# Altium integrated library Microchip Microcontroller 8-Bit PIC16 2.IntLib: 1656 symbols (part 52 of 56)
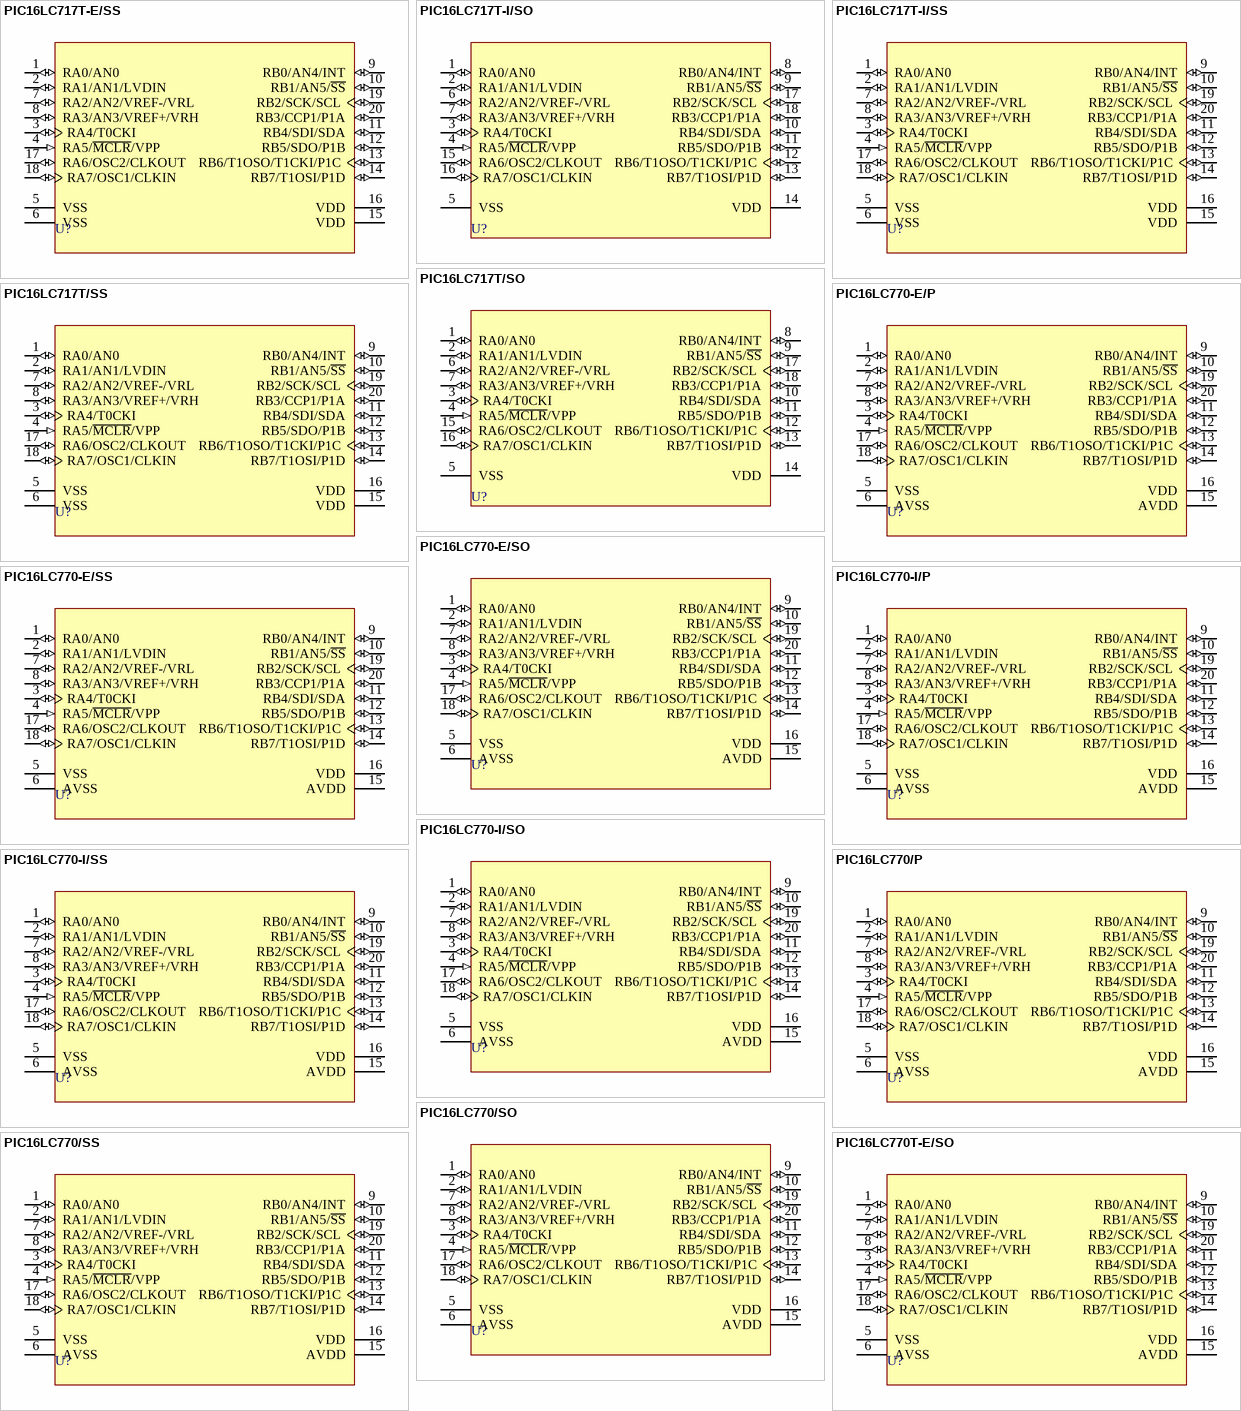
[diagram p159: symbols PIC16LC717T-E/SS to PIC16LC770T-E/SO]

## PIC16LC770-I/SS
designator U?
8-Bit CMOS Microcontroller with 12-Bit A/D, 2K (x14-Bit words) EPROM, 256 Bytes RAM, 20-Pin SSOP, 2.5 to 5.5V Supply Range, Industrial Temperature; Published: 11-Oct-2004; LatestRevisionDate: 04-Mar-2005; LatestRevisionNote: Stylized 3D Model Added.; DatasheetVersion: DS41120B_2002; PackageVersion: 2003; PackageReference: SSOP-20; Publisher: Altium Limited; PackageDescription: SSOP, Plastic; 20 Leads; Body Width 5.3 mm; Pitch 0.65 mm; Code_JEDEC: MO-150; ComponentLink1Description: Manufacturer Link; ComponentLink1URL: http://www.microchip.com; ComponentLink2Description: Datasheet; ComponentLink2URL: http://ww1.microchip.com/downloads/en/DeviceDoc/41120b.pdf; ComponentLink3Description: Packaging Specification; ComponentLink3URL: http://ww1.microchip.com/downloads/en/PackagingSpec/00049AD.pdf
footprint SSOP-20 (SSOP, Plastic; 20 Leads; Body Width 5.3 mm; Pitch 0.65 mm)
3D model SSOP-20 (SSOP, Plastic; 20 Leads; Body Width 5.3 mm; Pitch 0.65 mm)
pins: 1 RA0/AN0 (io), 2 RA1/AN1/LVDIN (io), 3 RA4/T0CKI (io), 4 RA5/~{MCLR}/VPP (in), 5 VSS (power), 6 AVSS (power), 7 RA2/AN2/VREF-/VRL (io), 8 RA3/AN3/VREF+/VRH (io), 9 RB0/AN4/INT (io), 10 RB1/AN5/~{SS} (io), 11 RB4/SDI/SDA (io), 12 RB5/SDO/P1B (io), 13 RB6/T1OSO/T1CKI/P1C (io), 14 RB7/T1OSI/P1D (io), 15 AVDD (power), 16 VDD (power), 17 RA6/OSC2/CLKOUT (io), 18 RA7/OSC1/CLKIN (io), 19 RB2/SCK/SCL (io), 20 RB3/CCP1/P1A (io)

## PIC16LC770/P
designator U?
8-Bit CMOS Microcontroller with 12-Bit A/D, 2K (x14-Bit words) EPROM, 256 Bytes RAM, 20-Pin PDIP, 2.5 to 5.5V Supply Range, Commercial Temperature; Published: 11-Oct-2004; LatestRevisionDate: 04-Mar-2005; LatestRevisionNote: Stylized 3D Model Added.; DatasheetVersion: DS41120B_2002; PackageVersion: 2003; PackageReference: PDIP300-20; Publisher: Altium Limited; PackageDescription: DIP, Plastic; 20 Leads; Row Spacing 7.62 mm; Pitch 2.54 mm; Code_JEDEC: MS-001; ComponentLink1Description: Manufacturer Link; ComponentLink1URL: http://www.microchip.com; ComponentLink2Description: Datasheet; ComponentLink2URL: http://ww1.microchip.com/downloads/en/DeviceDoc/41120b.pdf; ComponentLink3Description: Packaging Specification; ComponentLink3URL: http://ww1.microchip.com/downloads/en/PackagingSpec/00049AD.pdf
footprint PDIP300-20 (DIP, Plastic; 20 Leads; Row Spacing 7.62 mm; Pitch 2.54 mm)
3D model PDIP300-20 (DIP, Plastic; 20 Leads; Row Spacing 7.62 mm; Pitch 2.54 mm)
pins: 1 RA0/AN0 (io), 2 RA1/AN1/LVDIN (io), 3 RA4/T0CKI (io), 4 RA5/~{MCLR}/VPP (in), 5 VSS (power), 6 AVSS (power), 7 RA2/AN2/VREF-/VRL (io), 8 RA3/AN3/VREF+/VRH (io), 9 RB0/AN4/INT (io), 10 RB1/AN5/~{SS} (io), 11 RB4/SDI/SDA (io), 12 RB5/SDO/P1B (io), 13 RB6/T1OSO/T1CKI/P1C (io), 14 RB7/T1OSI/P1D (io), 15 AVDD (power), 16 VDD (power), 17 RA6/OSC2/CLKOUT (io), 18 RA7/OSC1/CLKIN (io), 19 RB2/SCK/SCL (io), 20 RB3/CCP1/P1A (io)

## PIC16LC770/SO
designator U?
8-Bit CMOS Microcontroller with 12-Bit A/D, 2K (x14-Bit words) EPROM, 256 Bytes RAM, 20-Pin SOIC, 2.5 to 5.5V Supply Range, Commercial Temperature; Published: 11-Oct-2004; LatestRevisionDate: 13-Apr-2006; LatestRevisionNote: IPC-7351 Footprint Added.; DatasheetVersion: DS41120B_2002; PackageVersion: 2003; PackageReference: SOIC300-20; Publisher: Altium Limited; PackageDescription: 20-Pin Plastic Wide Body Small Outline Integrated Circuit 1.27 mm Pitch; Code_JEDEC: MS-013-AC; Code_IPC: SOIC127P1030-20; ComponentLink1Description: Manufacturer Link; ComponentLink1URL: http://www.microchip.com; ComponentLink2Description: Datasheet; ComponentLink2URL: http://ww1.microchip.com/downloads/en/DeviceDoc/41120b.pdf; ComponentLink3Description: Packaging Specification; ComponentLink3URL: http://ww1.microchip.com/downloads/en/PackagingSpec/00049AD.pdf
footprint SOIC300-20_N (SOIC, 20-Leads, Body 12.8x7.5mm, Pitch 1.27mm, IPC Medium Density)
footprint SOIC300-20_L (SOIC, 20-Leads, Body 12.8x7.5mm, Pitch 1.27mm, IPC High Density)
footprint SOIC300-20_M (SOIC, 20-Leads, Body 12.8x7.5mm, Pitch 1.27mm, IPC Low Density)
3D model SOIC300-20 (20-Pin Plastic Wide Body Small Outline Integrated Circuit 1.27 mm Pitch)
pins: 1 RA0/AN0 (io), 2 RA1/AN1/LVDIN (io), 3 RA4/T0CKI (io), 4 RA5/~{MCLR}/VPP (in), 5 VSS (power), 6 AVSS (power), 7 RA2/AN2/VREF-/VRL (io), 8 RA3/AN3/VREF+/VRH (io), 9 RB0/AN4/INT (io), 10 RB1/AN5/~{SS} (io), 11 RB4/SDI/SDA (io), 12 RB5/SDO/P1B (io), 13 RB6/T1OSO/T1CKI/P1C (io), 14 RB7/T1OSI/P1D (io), 15 AVDD (power), 16 VDD (power), 17 RA6/OSC2/CLKOUT (io), 18 RA7/OSC1/CLKIN (io), 19 RB2/SCK/SCL (io), 20 RB3/CCP1/P1A (io)

## PIC16LC770/SS
designator U?
8-Bit CMOS Microcontroller with 12-Bit A/D, 2K (x14-Bit words) EPROM, 256 Bytes RAM, 20-Pin SSOP, 2.5 to 5.5V Supply Range, Commercial Temperature; Published: 11-Oct-2004; LatestRevisionDate: 04-Mar-2005; LatestRevisionNote: Stylized 3D Model Added.; DatasheetVersion: DS41120B_2002; PackageVersion: 2003; PackageReference: SSOP-20; Publisher: Altium Limited; PackageDescription: SSOP, Plastic; 20 Leads; Body Width 5.3 mm; Pitch 0.65 mm; Code_JEDEC: MO-150; ComponentLink1Description: Manufacturer Link; ComponentLink1URL: http://www.microchip.com; ComponentLink2Description: Datasheet; ComponentLink2URL: http://ww1.microchip.com/downloads/en/DeviceDoc/41120b.pdf; ComponentLink3Description: Packaging Specification; ComponentLink3URL: http://ww1.microchip.com/downloads/en/PackagingSpec/00049AD.pdf
footprint SSOP-20 (SSOP, Plastic; 20 Leads; Body Width 5.3 mm; Pitch 0.65 mm)
3D model SSOP-20 (SSOP, Plastic; 20 Leads; Body Width 5.3 mm; Pitch 0.65 mm)
pins: 1 RA0/AN0 (io), 2 RA1/AN1/LVDIN (io), 3 RA4/T0CKI (io), 4 RA5/~{MCLR}/VPP (in), 5 VSS (power), 6 AVSS (power), 7 RA2/AN2/VREF-/VRL (io), 8 RA3/AN3/VREF+/VRH (io), 9 RB0/AN4/INT (io), 10 RB1/AN5/~{SS} (io), 11 RB4/SDI/SDA (io), 12 RB5/SDO/P1B (io), 13 RB6/T1OSO/T1CKI/P1C (io), 14 RB7/T1OSI/P1D (io), 15 AVDD (power), 16 VDD (power), 17 RA6/OSC2/CLKOUT (io), 18 RA7/OSC1/CLKIN (io), 19 RB2/SCK/SCL (io), 20 RB3/CCP1/P1A (io)

## PIC16LC770T-E/SO
designator U?
8-Bit CMOS Microcontroller with 12-Bit A/D, 2K (x14-Bit words) EPROM, 256 Bytes RAM, 20-Pin SOIC, 2.5 to 5.5V Supply Range, Extended Temperature, Tape and Reel; Published: 11-Oct-2004; LatestRevisionDate: 13-Apr-2006; LatestRevisionNote: IPC-7351 Footprint Added.; DatasheetVersion: DS41120B_2002; PackageVersion: 2003; PackageReference: SOIC300-20; Publisher: Altium Limited; PackageDescription: 20-Pin Plastic Wide Body Small Outline Integrated Circuit 1.27 mm Pitch; Code_JEDEC: MS-013-AC; Code_IPC: SOIC127P1030-20; ComponentLink1Description: Manufacturer Link; ComponentLink1URL: http://www.microchip.com; ComponentLink2Description: Datasheet; ComponentLink2URL: http://ww1.microchip.com/downloads/en/DeviceDoc/41120b.pdf; ComponentLink3Description: Packaging Specification; ComponentLink3URL: http://ww1.microchip.com/downloads/en/PackagingSpec/00049AD.pdf
footprint SOIC300-20_N (SOIC, 20-Leads, Body 12.8x7.5mm, Pitch 1.27mm, IPC Medium Density)
footprint SOIC300-20_L (SOIC, 20-Leads, Body 12.8x7.5mm, Pitch 1.27mm, IPC High Density)
footprint SOIC300-20_M (SOIC, 20-Leads, Body 12.8x7.5mm, Pitch 1.27mm, IPC Low Density)
3D model SOIC300-20 (20-Pin Plastic Wide Body Small Outline Integrated Circuit 1.27 mm Pitch)
pins: 1 RA0/AN0 (io), 2 RA1/AN1/LVDIN (io), 3 RA4/T0CKI (io), 4 RA5/~{MCLR}/VPP (in), 5 VSS (power), 6 AVSS (power), 7 RA2/AN2/VREF-/VRL (io), 8 RA3/AN3/VREF+/VRH (io), 9 RB0/AN4/INT (io), 10 RB1/AN5/~{SS} (io), 11 RB4/SDI/SDA (io), 12 RB5/SDO/P1B (io), 13 RB6/T1OSO/T1CKI/P1C (io), 14 RB7/T1OSI/P1D (io), 15 AVDD (power), 16 VDD (power), 17 RA6/OSC2/CLKOUT (io), 18 RA7/OSC1/CLKIN (io), 19 RB2/SCK/SCL (io), 20 RB3/CCP1/P1A (io)

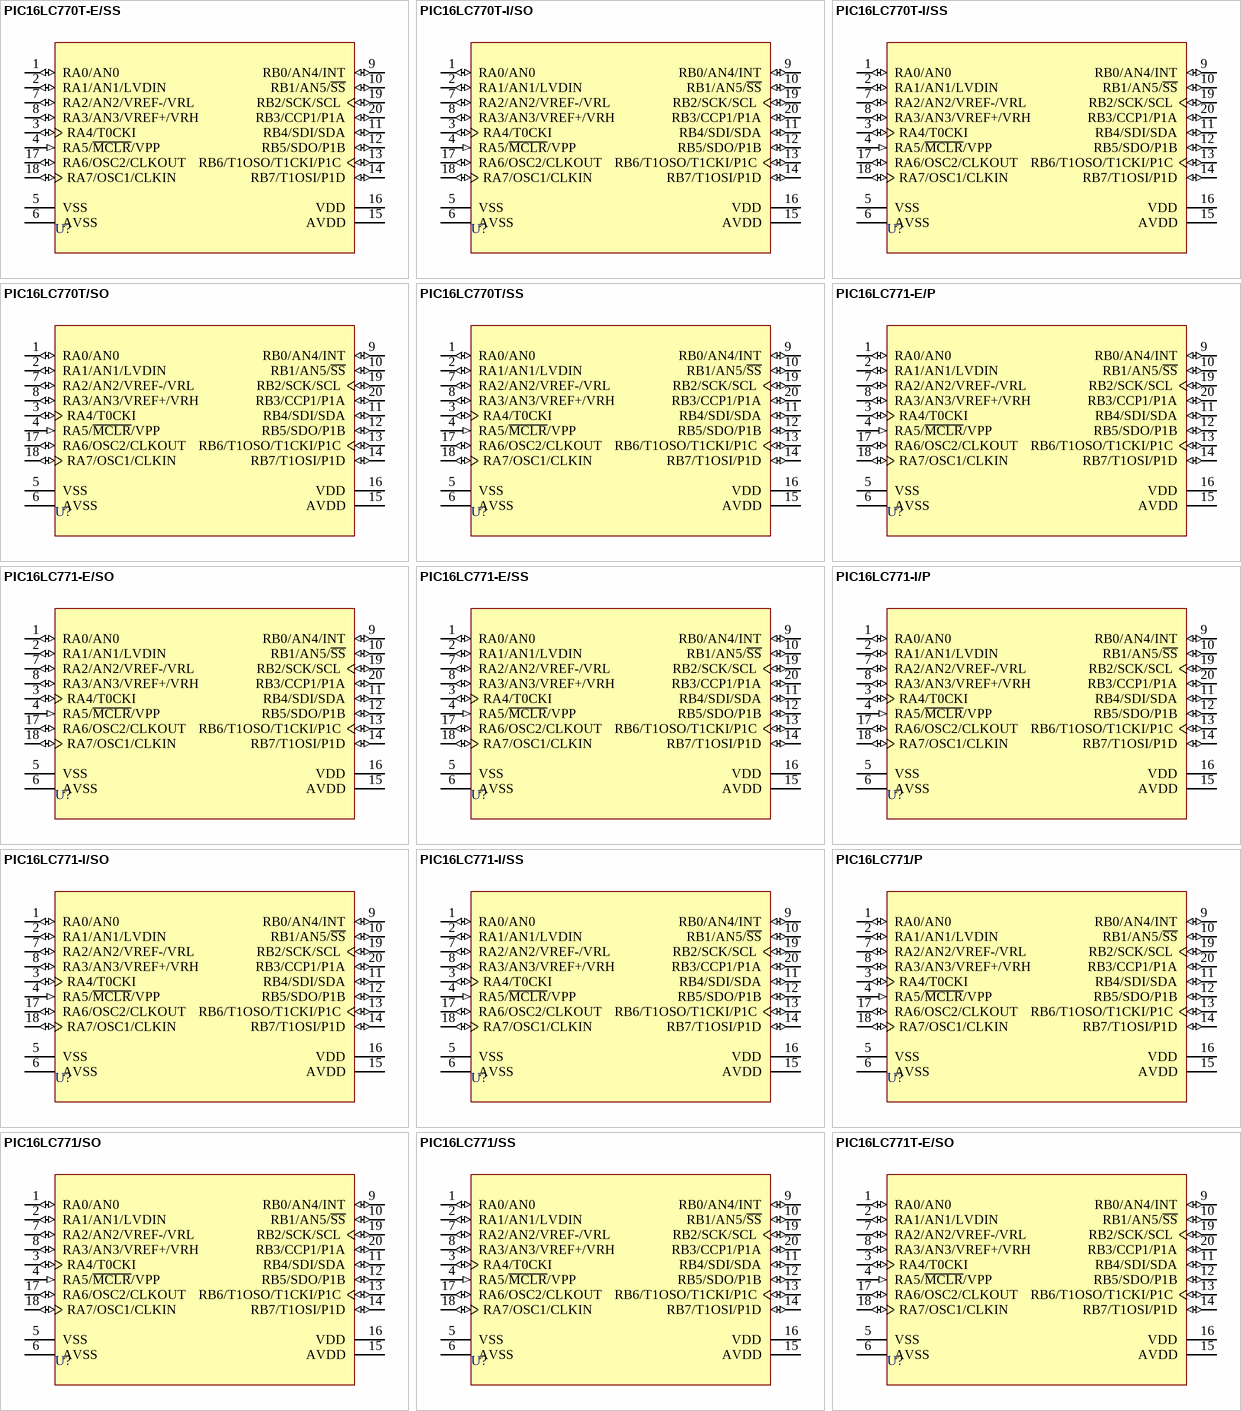
[diagram p100: symbols PIC16LC770T-E/SS to PIC16LC771T-E/SO]

## PIC16LC770T-E/SS
designator U?
8-Bit CMOS Microcontroller with 12-Bit A/D, 2K (x14-Bit words) EPROM, 256 Bytes RAM, 20-Pin SSOP, 2.5 to 5.5V Supply Range, Extended Temperature, Tape and Reel; Published: 11-Oct-2004; LatestRevisionDate: 04-Mar-2005; LatestRevisionNote: Stylized 3D Model Added.; DatasheetVersion: DS41120B_2002; PackageVersion: 2003; PackageReference: SSOP-20; Publisher: Altium Limited; PackageDescription: SSOP, Plastic; 20 Leads; Body Width 5.3 mm; Pitch 0.65 mm; Code_JEDEC: MO-150; ComponentLink1Description: Manufacturer Link; ComponentLink1URL: http://www.microchip.com; ComponentLink2Description: Datasheet; ComponentLink2URL: http://ww1.microchip.com/downloads/en/DeviceDoc/41120b.pdf; ComponentLink3Description: Packaging Specification; ComponentLink3URL: http://ww1.microchip.com/downloads/en/PackagingSpec/00049AD.pdf
footprint SSOP-20 (SSOP, Plastic; 20 Leads; Body Width 5.3 mm; Pitch 0.65 mm)
3D model SSOP-20 (SSOP, Plastic; 20 Leads; Body Width 5.3 mm; Pitch 0.65 mm)
pins: 1 RA0/AN0 (io), 2 RA1/AN1/LVDIN (io), 3 RA4/T0CKI (io), 4 RA5/~{MCLR}/VPP (in), 5 VSS (power), 6 AVSS (power), 7 RA2/AN2/VREF-/VRL (io), 8 RA3/AN3/VREF+/VRH (io), 9 RB0/AN4/INT (io), 10 RB1/AN5/~{SS} (io), 11 RB4/SDI/SDA (io), 12 RB5/SDO/P1B (io), 13 RB6/T1OSO/T1CKI/P1C (io), 14 RB7/T1OSI/P1D (io), 15 AVDD (power), 16 VDD (power), 17 RA6/OSC2/CLKOUT (io), 18 RA7/OSC1/CLKIN (io), 19 RB2/SCK/SCL (io), 20 RB3/CCP1/P1A (io)

## PIC16LC770T-I/SO
designator U?
8-Bit CMOS Microcontroller with 12-Bit A/D, 2K (x14-Bit words) EPROM, 256 Bytes RAM, 20-Pin SOIC, 2.5 to 5.5V Supply Range, Industrial Temperature, Tape and Reel; Published: 11-Oct-2004; LatestRevisionDate: 13-Apr-2006; LatestRevisionNote: IPC-7351 Footprint Added.; DatasheetVersion: DS41120B_2002; PackageVersion: 2003; PackageReference: SOIC300-20; Publisher: Altium Limited; PackageDescription: 20-Pin Plastic Wide Body Small Outline Integrated Circuit 1.27 mm Pitch; Code_JEDEC: MS-013-AC; Code_IPC: SOIC127P1030-20; ComponentLink1Description: Manufacturer Link; ComponentLink1URL: http://www.microchip.com; ComponentLink2Description: Datasheet; ComponentLink2URL: http://ww1.microchip.com/downloads/en/DeviceDoc/41120b.pdf; ComponentLink3Description: Packaging Specification; ComponentLink3URL: http://ww1.microchip.com/downloads/en/PackagingSpec/00049AD.pdf
footprint SOIC300-20_N (SOIC, 20-Leads, Body 12.8x7.5mm, Pitch 1.27mm, IPC Medium Density)
footprint SOIC300-20_L (SOIC, 20-Leads, Body 12.8x7.5mm, Pitch 1.27mm, IPC High Density)
footprint SOIC300-20_M (SOIC, 20-Leads, Body 12.8x7.5mm, Pitch 1.27mm, IPC Low Density)
3D model SOIC300-20 (20-Pin Plastic Wide Body Small Outline Integrated Circuit 1.27 mm Pitch)
pins: 1 RA0/AN0 (io), 2 RA1/AN1/LVDIN (io), 3 RA4/T0CKI (io), 4 RA5/~{MCLR}/VPP (in), 5 VSS (power), 6 AVSS (power), 7 RA2/AN2/VREF-/VRL (io), 8 RA3/AN3/VREF+/VRH (io), 9 RB0/AN4/INT (io), 10 RB1/AN5/~{SS} (io), 11 RB4/SDI/SDA (io), 12 RB5/SDO/P1B (io), 13 RB6/T1OSO/T1CKI/P1C (io), 14 RB7/T1OSI/P1D (io), 15 AVDD (power), 16 VDD (power), 17 RA6/OSC2/CLKOUT (io), 18 RA7/OSC1/CLKIN (io), 19 RB2/SCK/SCL (io), 20 RB3/CCP1/P1A (io)

## PIC16LC770T-I/SS
designator U?
8-Bit CMOS Microcontroller with 12-Bit A/D, 2K (x14-Bit words) EPROM, 256 Bytes RAM, 20-Pin SSOP, 2.5 to 5.5V Supply Range, Industrial Temperature, Tape and Reel; Published: 11-Oct-2004; LatestRevisionDate: 04-Mar-2005; LatestRevisionNote: Stylized 3D Model Added.; DatasheetVersion: DS41120B_2002; PackageVersion: 2003; PackageReference: SSOP-20; Publisher: Altium Limited; PackageDescription: SSOP, Plastic; 20 Leads; Body Width 5.3 mm; Pitch 0.65 mm; Code_JEDEC: MO-150; ComponentLink1Description: Manufacturer Link; ComponentLink1URL: http://www.microchip.com; ComponentLink2Description: Datasheet; ComponentLink2URL: http://ww1.microchip.com/downloads/en/DeviceDoc/41120b.pdf; ComponentLink3Description: Packaging Specification; ComponentLink3URL: http://ww1.microchip.com/downloads/en/PackagingSpec/00049AD.pdf
footprint SSOP-20 (SSOP, Plastic; 20 Leads; Body Width 5.3 mm; Pitch 0.65 mm)
3D model SSOP-20 (SSOP, Plastic; 20 Leads; Body Width 5.3 mm; Pitch 0.65 mm)
pins: 1 RA0/AN0 (io), 2 RA1/AN1/LVDIN (io), 3 RA4/T0CKI (io), 4 RA5/~{MCLR}/VPP (in), 5 VSS (power), 6 AVSS (power), 7 RA2/AN2/VREF-/VRL (io), 8 RA3/AN3/VREF+/VRH (io), 9 RB0/AN4/INT (io), 10 RB1/AN5/~{SS} (io), 11 RB4/SDI/SDA (io), 12 RB5/SDO/P1B (io), 13 RB6/T1OSO/T1CKI/P1C (io), 14 RB7/T1OSI/P1D (io), 15 AVDD (power), 16 VDD (power), 17 RA6/OSC2/CLKOUT (io), 18 RA7/OSC1/CLKIN (io), 19 RB2/SCK/SCL (io), 20 RB3/CCP1/P1A (io)

## PIC16LC770T/SO
designator U?
8-Bit CMOS Microcontroller with 12-Bit A/D, 2K (x14-Bit words) EPROM, 256 Bytes RAM, 20-Pin SOIC, 2.5 to 5.5V Supply Range, Commercial Temperature, Tape and Reel; Published: 11-Oct-2004; LatestRevisionDate: 13-Apr-2006; LatestRevisionNote: IPC-7351 Footprint Added.; DatasheetVersion: DS41120B_2002; PackageVersion: 2003; PackageReference: SOIC300-20; Publisher: Altium Limited; PackageDescription: 20-Pin Plastic Wide Body Small Outline Integrated Circuit 1.27 mm Pitch; Code_JEDEC: MS-013-AC; Code_IPC: SOIC127P1030-20; ComponentLink1Description: Manufacturer Link; ComponentLink1URL: http://www.microchip.com; ComponentLink2Description: Datasheet; ComponentLink2URL: http://ww1.microchip.com/downloads/en/DeviceDoc/41120b.pdf; ComponentLink3Description: Packaging Specification; ComponentLink3URL: http://ww1.microchip.com/downloads/en/PackagingSpec/00049AD.pdf
footprint SOIC300-20_N (SOIC, 20-Leads, Body 12.8x7.5mm, Pitch 1.27mm, IPC Medium Density)
footprint SOIC300-20_L (SOIC, 20-Leads, Body 12.8x7.5mm, Pitch 1.27mm, IPC High Density)
footprint SOIC300-20_M (SOIC, 20-Leads, Body 12.8x7.5mm, Pitch 1.27mm, IPC Low Density)
3D model SOIC300-20 (20-Pin Plastic Wide Body Small Outline Integrated Circuit 1.27 mm Pitch)
pins: 1 RA0/AN0 (io), 2 RA1/AN1/LVDIN (io), 3 RA4/T0CKI (io), 4 RA5/~{MCLR}/VPP (in), 5 VSS (power), 6 AVSS (power), 7 RA2/AN2/VREF-/VRL (io), 8 RA3/AN3/VREF+/VRH (io), 9 RB0/AN4/INT (io), 10 RB1/AN5/~{SS} (io), 11 RB4/SDI/SDA (io), 12 RB5/SDO/P1B (io), 13 RB6/T1OSO/T1CKI/P1C (io), 14 RB7/T1OSI/P1D (io), 15 AVDD (power), 16 VDD (power), 17 RA6/OSC2/CLKOUT (io), 18 RA7/OSC1/CLKIN (io), 19 RB2/SCK/SCL (io), 20 RB3/CCP1/P1A (io)

## PIC16LC770T/SS
designator U?
8-Bit CMOS Microcontroller with 12-Bit A/D, 2K (x14-Bit words) EPROM, 256 Bytes RAM, 20-Pin SSOP, 2.5 to 5.5V Supply Range, Commercial Temperature, Tape and Reel; Published: 11-Oct-2004; LatestRevisionDate: 04-Mar-2005; LatestRevisionNote: Stylized 3D Model Added.; DatasheetVersion: DS41120B_2002; PackageVersion: 2003; PackageReference: SSOP-20; Publisher: Altium Limited; PackageDescription: SSOP, Plastic; 20 Leads; Body Width 5.3 mm; Pitch 0.65 mm; Code_JEDEC: MO-150; ComponentLink1Description: Manufacturer Link; ComponentLink1URL: http://www.microchip.com; ComponentLink2Description: Datasheet; ComponentLink2URL: http://ww1.microchip.com/downloads/en/DeviceDoc/41120b.pdf; ComponentLink3Description: Packaging Specification; ComponentLink3URL: http://ww1.microchip.com/downloads/en/PackagingSpec/00049AD.pdf
footprint SSOP-20 (SSOP, Plastic; 20 Leads; Body Width 5.3 mm; Pitch 0.65 mm)
3D model SSOP-20 (SSOP, Plastic; 20 Leads; Body Width 5.3 mm; Pitch 0.65 mm)
pins: 1 RA0/AN0 (io), 2 RA1/AN1/LVDIN (io), 3 RA4/T0CKI (io), 4 RA5/~{MCLR}/VPP (in), 5 VSS (power), 6 AVSS (power), 7 RA2/AN2/VREF-/VRL (io), 8 RA3/AN3/VREF+/VRH (io), 9 RB0/AN4/INT (io), 10 RB1/AN5/~{SS} (io), 11 RB4/SDI/SDA (io), 12 RB5/SDO/P1B (io), 13 RB6/T1OSO/T1CKI/P1C (io), 14 RB7/T1OSI/P1D (io), 15 AVDD (power), 16 VDD (power), 17 RA6/OSC2/CLKOUT (io), 18 RA7/OSC1/CLKIN (io), 19 RB2/SCK/SCL (io), 20 RB3/CCP1/P1A (io)

## PIC16LC771-E/P
designator U?
8-Bit CMOS Microcontroller with 12-Bit A/D, 4K (x14-Bit words) EPROM, 256 Bytes RAM, 20-Pin PDIP, 2.5 to 5.5V Supply Range, Extended Temperature; Published: 11-Oct-2004; LatestRevisionDate: 04-Mar-2005; LatestRevisionNote: Stylized 3D Model Added.; DatasheetVersion: DS41120B_2002; PackageVersion: 2003; PackageReference: PDIP300-20; Publisher: Altium Limited; PackageDescription: DIP, Plastic; 20 Leads; Row Spacing 7.62 mm; Pitch 2.54 mm; Code_JEDEC: MS-001; ComponentLink1Description: Manufacturer Link; ComponentLink1URL: http://www.microchip.com; ComponentLink2Description: Datasheet; ComponentLink2URL: http://ww1.microchip.com/downloads/en/DeviceDoc/41120b.pdf; ComponentLink3Description: Packaging Specification; ComponentLink3URL: http://ww1.microchip.com/downloads/en/PackagingSpec/00049AD.pdf
footprint PDIP300-20 (DIP, Plastic; 20 Leads; Row Spacing 7.62 mm; Pitch 2.54 mm)
3D model PDIP300-20 (DIP, Plastic; 20 Leads; Row Spacing 7.62 mm; Pitch 2.54 mm)
pins: 1 RA0/AN0 (io), 2 RA1/AN1/LVDIN (io), 3 RA4/T0CKI (io), 4 RA5/~{MCLR}/VPP (in), 5 VSS (power), 6 AVSS (power), 7 RA2/AN2/VREF-/VRL (io), 8 RA3/AN3/VREF+/VRH (io), 9 RB0/AN4/INT (io), 10 RB1/AN5/~{SS} (io), 11 RB4/SDI/SDA (io), 12 RB5/SDO/P1B (io), 13 RB6/T1OSO/T1CKI/P1C (io), 14 RB7/T1OSI/P1D (io), 15 AVDD (power), 16 VDD (power), 17 RA6/OSC2/CLKOUT (io), 18 RA7/OSC1/CLKIN (io), 19 RB2/SCK/SCL (io), 20 RB3/CCP1/P1A (io)

## PIC16LC771-E/SO
designator U?
8-Bit CMOS Microcontroller with 12-Bit A/D, 4K (x14-Bit words) EPROM, 256 Bytes RAM, 20-Pin SOIC, 2.5 to 5.5V Supply Range, Extended Temperature; Published: 11-Oct-2004; LatestRevisionDate: 13-Apr-2006; LatestRevisionNote: IPC-7351 Footprint Added.; DatasheetVersion: DS41120B_2002; PackageVersion: 2003; PackageReference: SOIC300-20; Publisher: Altium Limited; PackageDescription: 20-Pin Plastic Wide Body Small Outline Integrated Circuit 1.27 mm Pitch; Code_JEDEC: MS-013-AC; Code_IPC: SOIC127P1030-20; ComponentLink1Description: Manufacturer Link; ComponentLink1URL: http://www.microchip.com; ComponentLink2Description: Datasheet; ComponentLink2URL: http://ww1.microchip.com/downloads/en/DeviceDoc/41120b.pdf; ComponentLink3Description: Packaging Specification; ComponentLink3URL: http://ww1.microchip.com/downloads/en/PackagingSpec/00049AD.pdf
footprint SOIC300-20_N (SOIC, 20-Leads, Body 12.8x7.5mm, Pitch 1.27mm, IPC Medium Density)
footprint SOIC300-20_L (SOIC, 20-Leads, Body 12.8x7.5mm, Pitch 1.27mm, IPC High Density)
footprint SOIC300-20_M (SOIC, 20-Leads, Body 12.8x7.5mm, Pitch 1.27mm, IPC Low Density)
3D model SOIC300-20 (20-Pin Plastic Wide Body Small Outline Integrated Circuit 1.27 mm Pitch)
pins: 1 RA0/AN0 (io), 2 RA1/AN1/LVDIN (io), 3 RA4/T0CKI (io), 4 RA5/~{MCLR}/VPP (in), 5 VSS (power), 6 AVSS (power), 7 RA2/AN2/VREF-/VRL (io), 8 RA3/AN3/VREF+/VRH (io), 9 RB0/AN4/INT (io), 10 RB1/AN5/~{SS} (io), 11 RB4/SDI/SDA (io), 12 RB5/SDO/P1B (io), 13 RB6/T1OSO/T1CKI/P1C (io), 14 RB7/T1OSI/P1D (io), 15 AVDD (power), 16 VDD (power), 17 RA6/OSC2/CLKOUT (io), 18 RA7/OSC1/CLKIN (io), 19 RB2/SCK/SCL (io), 20 RB3/CCP1/P1A (io)

## PIC16LC771-E/SS
designator U?
8-Bit CMOS Microcontroller with 12-Bit A/D, 4K (x14-Bit words) EPROM, 256 Bytes RAM, 20-Pin SSOP, 2.5 to 5.5V Supply Range, Extended Temperature; Published: 11-Oct-2004; LatestRevisionDate: 04-Mar-2005; LatestRevisionNote: Stylized 3D Model Added.; DatasheetVersion: DS41120B_2002; PackageVersion: 2003; PackageReference: SSOP-20; Publisher: Altium Limited; PackageDescription: SSOP, Plastic; 20 Leads; Body Width 5.3 mm; Pitch 0.65 mm; Code_JEDEC: MO-150; ComponentLink1Description: Manufacturer Link; ComponentLink1URL: http://www.microchip.com; ComponentLink2Description: Datasheet; ComponentLink2URL: http://ww1.microchip.com/downloads/en/DeviceDoc/41120b.pdf; ComponentLink3Description: Packaging Specification; ComponentLink3URL: http://ww1.microchip.com/downloads/en/PackagingSpec/00049AD.pdf
footprint SSOP-20 (SSOP, Plastic; 20 Leads; Body Width 5.3 mm; Pitch 0.65 mm)
3D model SSOP-20 (SSOP, Plastic; 20 Leads; Body Width 5.3 mm; Pitch 0.65 mm)
pins: 1 RA0/AN0 (io), 2 RA1/AN1/LVDIN (io), 3 RA4/T0CKI (io), 4 RA5/~{MCLR}/VPP (in), 5 VSS (power), 6 AVSS (power), 7 RA2/AN2/VREF-/VRL (io), 8 RA3/AN3/VREF+/VRH (io), 9 RB0/AN4/INT (io), 10 RB1/AN5/~{SS} (io), 11 RB4/SDI/SDA (io), 12 RB5/SDO/P1B (io), 13 RB6/T1OSO/T1CKI/P1C (io), 14 RB7/T1OSI/P1D (io), 15 AVDD (power), 16 VDD (power), 17 RA6/OSC2/CLKOUT (io), 18 RA7/OSC1/CLKIN (io), 19 RB2/SCK/SCL (io), 20 RB3/CCP1/P1A (io)

## PIC16LC771-I/P
designator U?
8-Bit CMOS Microcontroller with 12-Bit A/D, 4K (x14-Bit words) EPROM, 256 Bytes RAM, 20-Pin PDIP, 2.5 to 5.5V Supply Range, Industrial Temperature; Published: 11-Oct-2004; LatestRevisionDate: 04-Mar-2005; LatestRevisionNote: Stylized 3D Model Added.; DatasheetVersion: DS41120B_2002; PackageVersion: 2003; PackageReference: PDIP300-20; Publisher: Altium Limited; PackageDescription: DIP, Plastic; 20 Leads; Row Spacing 7.62 mm; Pitch 2.54 mm; Code_JEDEC: MS-001; ComponentLink1Description: Manufacturer Link; ComponentLink1URL: http://www.microchip.com; ComponentLink2Description: Datasheet; ComponentLink2URL: http://ww1.microchip.com/downloads/en/DeviceDoc/41120b.pdf; ComponentLink3Description: Packaging Specification; ComponentLink3URL: http://ww1.microchip.com/downloads/en/PackagingSpec/00049AD.pdf
footprint PDIP300-20 (DIP, Plastic; 20 Leads; Row Spacing 7.62 mm; Pitch 2.54 mm)
3D model PDIP300-20 (DIP, Plastic; 20 Leads; Row Spacing 7.62 mm; Pitch 2.54 mm)
pins: 1 RA0/AN0 (io), 2 RA1/AN1/LVDIN (io), 3 RA4/T0CKI (io), 4 RA5/~{MCLR}/VPP (in), 5 VSS (power), 6 AVSS (power), 7 RA2/AN2/VREF-/VRL (io), 8 RA3/AN3/VREF+/VRH (io), 9 RB0/AN4/INT (io), 10 RB1/AN5/~{SS} (io), 11 RB4/SDI/SDA (io), 12 RB5/SDO/P1B (io), 13 RB6/T1OSO/T1CKI/P1C (io), 14 RB7/T1OSI/P1D (io), 15 AVDD (power), 16 VDD (power), 17 RA6/OSC2/CLKOUT (io), 18 RA7/OSC1/CLKIN (io), 19 RB2/SCK/SCL (io), 20 RB3/CCP1/P1A (io)

## PIC16LC771-I/SO
designator U?
8-Bit CMOS Microcontroller with 12-Bit A/D, 4K (x14-Bit words) EPROM, 256 Bytes RAM, 20-Pin SOIC, 2.5 to 5.5V Supply Range, Industrial Temperature; Published: 11-Oct-2004; LatestRevisionDate: 13-Apr-2006; LatestRevisionNote: IPC-7351 Footprint Added.; DatasheetVersion: DS41120B_2002; PackageVersion: 2003; PackageReference: SOIC300-20; Publisher: Altium Limited; PackageDescription: 20-Pin Plastic Wide Body Small Outline Integrated Circuit 1.27 mm Pitch; Code_JEDEC: MS-013-AC; Code_IPC: SOIC127P1030-20; ComponentLink1Description: Manufacturer Link; ComponentLink1URL: http://www.microchip.com; ComponentLink2Description: Datasheet; ComponentLink2URL: http://ww1.microchip.com/downloads/en/DeviceDoc/41120b.pdf; ComponentLink3Description: Packaging Specification; ComponentLink3URL: http://ww1.microchip.com/downloads/en/PackagingSpec/00049AD.pdf
footprint SOIC300-20_N (SOIC, 20-Leads, Body 12.8x7.5mm, Pitch 1.27mm, IPC Medium Density)
footprint SOIC300-20_L (SOIC, 20-Leads, Body 12.8x7.5mm, Pitch 1.27mm, IPC High Density)
footprint SOIC300-20_M (SOIC, 20-Leads, Body 12.8x7.5mm, Pitch 1.27mm, IPC Low Density)
3D model SOIC300-20 (20-Pin Plastic Wide Body Small Outline Integrated Circuit 1.27 mm Pitch)
pins: 1 RA0/AN0 (io), 2 RA1/AN1/LVDIN (io), 3 RA4/T0CKI (io), 4 RA5/~{MCLR}/VPP (in), 5 VSS (power), 6 AVSS (power), 7 RA2/AN2/VREF-/VRL (io), 8 RA3/AN3/VREF+/VRH (io), 9 RB0/AN4/INT (io), 10 RB1/AN5/~{SS} (io), 11 RB4/SDI/SDA (io), 12 RB5/SDO/P1B (io), 13 RB6/T1OSO/T1CKI/P1C (io), 14 RB7/T1OSI/P1D (io), 15 AVDD (power), 16 VDD (power), 17 RA6/OSC2/CLKOUT (io), 18 RA7/OSC1/CLKIN (io), 19 RB2/SCK/SCL (io), 20 RB3/CCP1/P1A (io)

## PIC16LC771-I/SS
designator U?
8-Bit CMOS Microcontroller with 12-Bit A/D, 4K (x14-Bit words) EPROM, 256 Bytes RAM, 20-Pin SSOP, 2.5 to 5.5V Supply Range, Industrial Temperature; Published: 11-Oct-2004; LatestRevisionDate: 04-Mar-2005; LatestRevisionNote: Stylized 3D Model Added.; DatasheetVersion: DS41120B_2002; PackageVersion: 2003; PackageReference: SSOP-20; Publisher: Altium Limited; PackageDescription: SSOP, Plastic; 20 Leads; Body Width 5.3 mm; Pitch 0.65 mm; Code_JEDEC: MO-150; ComponentLink1Description: Manufacturer Link; ComponentLink1URL: http://www.microchip.com; ComponentLink2Description: Datasheet; ComponentLink2URL: http://ww1.microchip.com/downloads/en/DeviceDoc/41120b.pdf; ComponentLink3Description: Packaging Specification; ComponentLink3URL: http://ww1.microchip.com/downloads/en/PackagingSpec/00049AD.pdf
footprint SSOP-20 (SSOP, Plastic; 20 Leads; Body Width 5.3 mm; Pitch 0.65 mm)
3D model SSOP-20 (SSOP, Plastic; 20 Leads; Body Width 5.3 mm; Pitch 0.65 mm)
pins: 1 RA0/AN0 (io), 2 RA1/AN1/LVDIN (io), 3 RA4/T0CKI (io), 4 RA5/~{MCLR}/VPP (in), 5 VSS (power), 6 AVSS (power), 7 RA2/AN2/VREF-/VRL (io), 8 RA3/AN3/VREF+/VRH (io), 9 RB0/AN4/INT (io), 10 RB1/AN5/~{SS} (io), 11 RB4/SDI/SDA (io), 12 RB5/SDO/P1B (io), 13 RB6/T1OSO/T1CKI/P1C (io), 14 RB7/T1OSI/P1D (io), 15 AVDD (power), 16 VDD (power), 17 RA6/OSC2/CLKOUT (io), 18 RA7/OSC1/CLKIN (io), 19 RB2/SCK/SCL (io), 20 RB3/CCP1/P1A (io)

## PIC16LC771/P
designator U?
8-Bit CMOS Microcontroller with 12-Bit A/D, 4K (x14-Bit words) EPROM, 256 Bytes RAM, 20-Pin PDIP, 2.5 to 5.5V Supply Range, Commercial Temperature; Published: 11-Oct-2004; LatestRevisionDate: 04-Mar-2005; LatestRevisionNote: Stylized 3D Model Added.; DatasheetVersion: DS41120B_2002; PackageVersion: 2003; PackageReference: PDIP300-20; Publisher: Altium Limited; PackageDescription: DIP, Plastic; 20 Leads; Row Spacing 7.62 mm; Pitch 2.54 mm; Code_JEDEC: MS-001; ComponentLink1Description: Manufacturer Link; ComponentLink1URL: http://www.microchip.com; ComponentLink2Description: Datasheet; ComponentLink2URL: http://ww1.microchip.com/downloads/en/DeviceDoc/41120b.pdf; ComponentLink3Description: Packaging Specification; ComponentLink3URL: http://ww1.microchip.com/downloads/en/PackagingSpec/00049AD.pdf
footprint PDIP300-20 (DIP, Plastic; 20 Leads; Row Spacing 7.62 mm; Pitch 2.54 mm)
3D model PDIP300-20 (DIP, Plastic; 20 Leads; Row Spacing 7.62 mm; Pitch 2.54 mm)
pins: 1 RA0/AN0 (io), 2 RA1/AN1/LVDIN (io), 3 RA4/T0CKI (io), 4 RA5/~{MCLR}/VPP (in), 5 VSS (power), 6 AVSS (power), 7 RA2/AN2/VREF-/VRL (io), 8 RA3/AN3/VREF+/VRH (io), 9 RB0/AN4/INT (io), 10 RB1/AN5/~{SS} (io), 11 RB4/SDI/SDA (io), 12 RB5/SDO/P1B (io), 13 RB6/T1OSO/T1CKI/P1C (io), 14 RB7/T1OSI/P1D (io), 15 AVDD (power), 16 VDD (power), 17 RA6/OSC2/CLKOUT (io), 18 RA7/OSC1/CLKIN (io), 19 RB2/SCK/SCL (io), 20 RB3/CCP1/P1A (io)

## PIC16LC771/SO
designator U?
8-Bit CMOS Microcontroller with 12-Bit A/D, 4K (x14-Bit words) EPROM, 256 Bytes RAM, 20-Pin SOIC, 2.5 to 5.5V Supply Range, Commercial Temperature; Published: 11-Oct-2004; LatestRevisionDate: 13-Apr-2006; LatestRevisionNote: IPC-7351 Footprint Added.; DatasheetVersion: DS41120B_2002; PackageVersion: 2003; PackageReference: SOIC300-20; Publisher: Altium Limited; PackageDescription: 20-Pin Plastic Wide Body Small Outline Integrated Circuit 1.27 mm Pitch; Code_JEDEC: MS-013-AC; Code_IPC: SOIC127P1030-20; ComponentLink1Description: Manufacturer Link; ComponentLink1URL: http://www.microchip.com; ComponentLink2Description: Datasheet; ComponentLink2URL: http://ww1.microchip.com/downloads/en/DeviceDoc/41120b.pdf; ComponentLink3Description: Packaging Specification; ComponentLink3URL: http://ww1.microchip.com/downloads/en/PackagingSpec/00049AD.pdf
footprint SOIC300-20_N (SOIC, 20-Leads, Body 12.8x7.5mm, Pitch 1.27mm, IPC Medium Density)
footprint SOIC300-20_L (SOIC, 20-Leads, Body 12.8x7.5mm, Pitch 1.27mm, IPC High Density)
footprint SOIC300-20_M (SOIC, 20-Leads, Body 12.8x7.5mm, Pitch 1.27mm, IPC Low Density)
3D model SOIC300-20 (20-Pin Plastic Wide Body Small Outline Integrated Circuit 1.27 mm Pitch)
pins: 1 RA0/AN0 (io), 2 RA1/AN1/LVDIN (io), 3 RA4/T0CKI (io), 4 RA5/~{MCLR}/VPP (in), 5 VSS (power), 6 AVSS (power), 7 RA2/AN2/VREF-/VRL (io), 8 RA3/AN3/VREF+/VRH (io), 9 RB0/AN4/INT (io), 10 RB1/AN5/~{SS} (io), 11 RB4/SDI/SDA (io), 12 RB5/SDO/P1B (io), 13 RB6/T1OSO/T1CKI/P1C (io), 14 RB7/T1OSI/P1D (io), 15 AVDD (power), 16 VDD (power), 17 RA6/OSC2/CLKOUT (io), 18 RA7/OSC1/CLKIN (io), 19 RB2/SCK/SCL (io), 20 RB3/CCP1/P1A (io)

## PIC16LC771/SS
designator U?
8-Bit CMOS Microcontroller with 12-Bit A/D, 4K (x14-Bit words) EPROM, 256 Bytes RAM, 20-Pin SSOP, 2.5 to 5.5V Supply Range, Commercial Temperature; Published: 11-Oct-2004; LatestRevisionDate: 04-Mar-2005; LatestRevisionNote: Stylized 3D Model Added.; DatasheetVersion: DS41120B_2002; PackageVersion: 2003; PackageReference: SSOP-20; Publisher: Altium Limited; PackageDescription: SSOP, Plastic; 20 Leads; Body Width 5.3 mm; Pitch 0.65 mm; Code_JEDEC: MO-150; ComponentLink1Description: Manufacturer Link; ComponentLink1URL: http://www.microchip.com; ComponentLink2Description: Datasheet; ComponentLink2URL: http://ww1.microchip.com/downloads/en/DeviceDoc/41120b.pdf; ComponentLink3Description: Packaging Specification; ComponentLink3URL: http://ww1.microchip.com/downloads/en/PackagingSpec/00049AD.pdf
footprint SSOP-20 (SSOP, Plastic; 20 Leads; Body Width 5.3 mm; Pitch 0.65 mm)
3D model SSOP-20 (SSOP, Plastic; 20 Leads; Body Width 5.3 mm; Pitch 0.65 mm)
pins: 1 RA0/AN0 (io), 2 RA1/AN1/LVDIN (io), 3 RA4/T0CKI (io), 4 RA5/~{MCLR}/VPP (in), 5 VSS (power), 6 AVSS (power), 7 RA2/AN2/VREF-/VRL (io), 8 RA3/AN3/VREF+/VRH (io), 9 RB0/AN4/INT (io), 10 RB1/AN5/~{SS} (io), 11 RB4/SDI/SDA (io), 12 RB5/SDO/P1B (io), 13 RB6/T1OSO/T1CKI/P1C (io), 14 RB7/T1OSI/P1D (io), 15 AVDD (power), 16 VDD (power), 17 RA6/OSC2/CLKOUT (io), 18 RA7/OSC1/CLKIN (io), 19 RB2/SCK/SCL (io), 20 RB3/CCP1/P1A (io)

## PIC16LC771T-E/SO
designator U?
8-Bit CMOS Microcontroller with 12-Bit A/D, 4K (x14-Bit words) EPROM, 256 Bytes RAM, 20-Pin SOIC, 2.5 to 5.5V Supply Range, Extended Temperature, Tape and Reel; Published: 11-Oct-2004; LatestRevisionDate: 13-Apr-2006; LatestRevisionNote: IPC-7351 Footprint Added.; DatasheetVersion: DS41120B_2002; PackageVersion: 2003; PackageReference: SOIC300-20; Publisher: Altium Limited; PackageDescription: 20-Pin Plastic Wide Body Small Outline Integrated Circuit 1.27 mm Pitch; Code_JEDEC: MS-013-AC; Code_IPC: SOIC127P1030-20; ComponentLink1Description: Manufacturer Link; ComponentLink1URL: http://www.microchip.com; ComponentLink2Description: Datasheet; ComponentLink2URL: http://ww1.microchip.com/downloads/en/DeviceDoc/41120b.pdf; ComponentLink3Description: Packaging Specification; ComponentLink3URL: http://ww1.microchip.com/downloads/en/PackagingSpec/00049AD.pdf
footprint SOIC300-20_N (SOIC, 20-Leads, Body 12.8x7.5mm, Pitch 1.27mm, IPC Medium Density)
footprint SOIC300-20_L (SOIC, 20-Leads, Body 12.8x7.5mm, Pitch 1.27mm, IPC High Density)
footprint SOIC300-20_M (SOIC, 20-Leads, Body 12.8x7.5mm, Pitch 1.27mm, IPC Low Density)
3D model SOIC300-20 (20-Pin Plastic Wide Body Small Outline Integrated Circuit 1.27 mm Pitch)
pins: 1 RA0/AN0 (io), 2 RA1/AN1/LVDIN (io), 3 RA4/T0CKI (io), 4 RA5/~{MCLR}/VPP (in), 5 VSS (power), 6 AVSS (power), 7 RA2/AN2/VREF-/VRL (io), 8 RA3/AN3/VREF+/VRH (io), 9 RB0/AN4/INT (io), 10 RB1/AN5/~{SS} (io), 11 RB4/SDI/SDA (io), 12 RB5/SDO/P1B (io), 13 RB6/T1OSO/T1CKI/P1C (io), 14 RB7/T1OSI/P1D (io), 15 AVDD (power), 16 VDD (power), 17 RA6/OSC2/CLKOUT (io), 18 RA7/OSC1/CLKIN (io), 19 RB2/SCK/SCL (io), 20 RB3/CCP1/P1A (io)

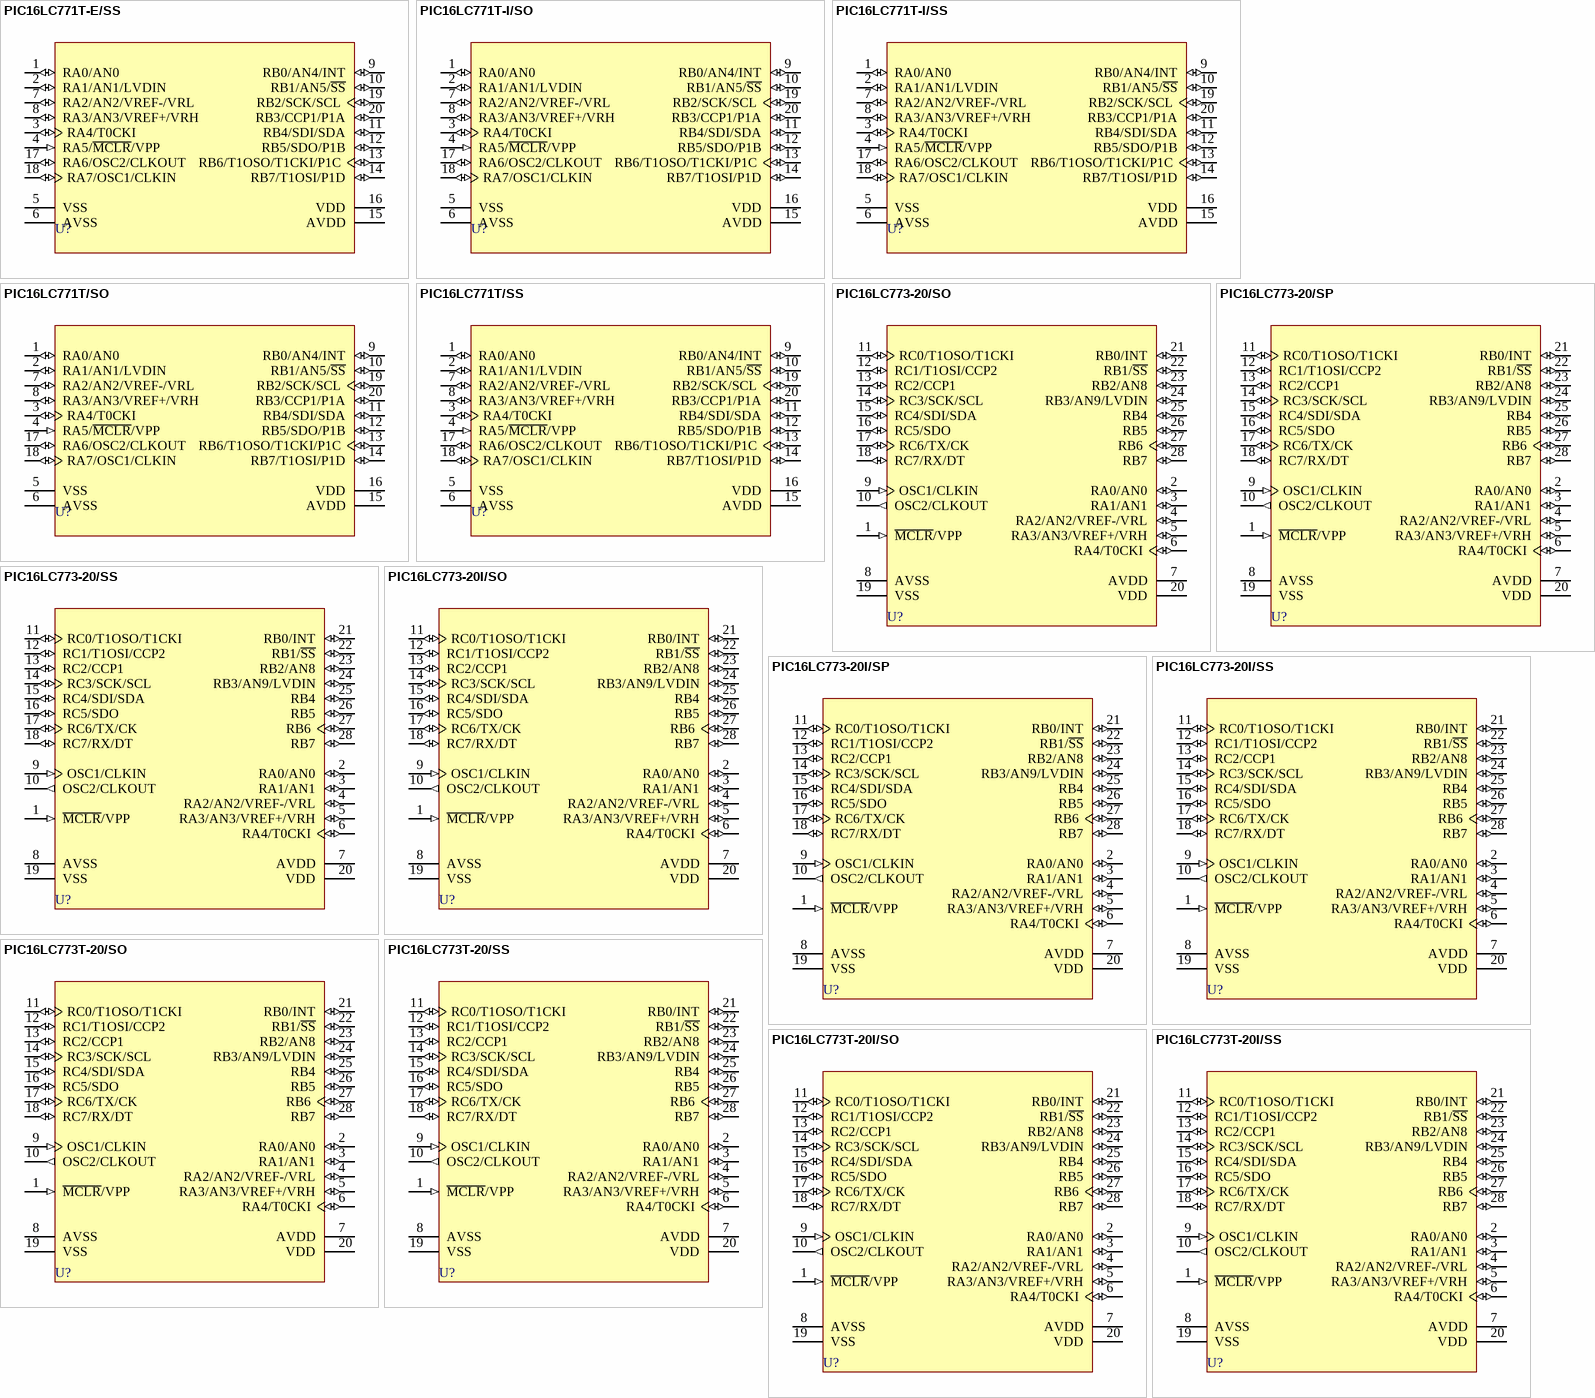
[diagram p101: symbols PIC16LC771T-E/SS to PIC16LC773T-20I/SS]

## PIC16LC771T-E/SS
designator U?
8-Bit CMOS Microcontroller with 12-Bit A/D, 4K (x14-Bit words) EPROM, 256 Bytes RAM, 20-Pin SSOP, 2.5 to 5.5V Supply Range, Extended Temperature, Tape and Reel; Published: 11-Oct-2004; LatestRevisionDate: 04-Mar-2005; LatestRevisionNote: Stylized 3D Model Added.; DatasheetVersion: DS41120B_2002; PackageVersion: 2003; PackageReference: SSOP-20; Publisher: Altium Limited; PackageDescription: SSOP, Plastic; 20 Leads; Body Width 5.3 mm; Pitch 0.65 mm; Code_JEDEC: MO-150; ComponentLink1Description: Manufacturer Link; ComponentLink1URL: http://www.microchip.com; ComponentLink2Description: Datasheet; ComponentLink2URL: http://ww1.microchip.com/downloads/en/DeviceDoc/41120b.pdf; ComponentLink3Description: Packaging Specification; ComponentLink3URL: http://ww1.microchip.com/downloads/en/PackagingSpec/00049AD.pdf
footprint SSOP-20 (SSOP, Plastic; 20 Leads; Body Width 5.3 mm; Pitch 0.65 mm)
3D model SSOP-20 (SSOP, Plastic; 20 Leads; Body Width 5.3 mm; Pitch 0.65 mm)
pins: 1 RA0/AN0 (io), 2 RA1/AN1/LVDIN (io), 3 RA4/T0CKI (io), 4 RA5/~{MCLR}/VPP (in), 5 VSS (power), 6 AVSS (power), 7 RA2/AN2/VREF-/VRL (io), 8 RA3/AN3/VREF+/VRH (io), 9 RB0/AN4/INT (io), 10 RB1/AN5/~{SS} (io), 11 RB4/SDI/SDA (io), 12 RB5/SDO/P1B (io), 13 RB6/T1OSO/T1CKI/P1C (io), 14 RB7/T1OSI/P1D (io), 15 AVDD (power), 16 VDD (power), 17 RA6/OSC2/CLKOUT (io), 18 RA7/OSC1/CLKIN (io), 19 RB2/SCK/SCL (io), 20 RB3/CCP1/P1A (io)

## PIC16LC771T-I/SO
designator U?
8-Bit CMOS Microcontroller with 12-Bit A/D, 4K (x14-Bit words) EPROM, 256 Bytes RAM, 20-Pin SOIC, 2.5 to 5.5V Supply Range, Industrial Temperature, Tape and Reel; Published: 11-Oct-2004; LatestRevisionDate: 13-Apr-2006; LatestRevisionNote: IPC-7351 Footprint Added.; DatasheetVersion: DS41120B_2002; PackageVersion: 2003; PackageReference: SOIC300-20; Publisher: Altium Limited; PackageDescription: 20-Pin Plastic Wide Body Small Outline Integrated Circuit 1.27 mm Pitch; Code_JEDEC: MS-013-AC; Code_IPC: SOIC127P1030-20; ComponentLink1Description: Manufacturer Link; ComponentLink1URL: http://www.microchip.com; ComponentLink2Description: Datasheet; ComponentLink2URL: http://ww1.microchip.com/downloads/en/DeviceDoc/41120b.pdf; ComponentLink3Description: Packaging Specification; ComponentLink3URL: http://ww1.microchip.com/downloads/en/PackagingSpec/00049AD.pdf
footprint SOIC300-20_N (SOIC, 20-Leads, Body 12.8x7.5mm, Pitch 1.27mm, IPC Medium Density)
footprint SOIC300-20_L (SOIC, 20-Leads, Body 12.8x7.5mm, Pitch 1.27mm, IPC High Density)
footprint SOIC300-20_M (SOIC, 20-Leads, Body 12.8x7.5mm, Pitch 1.27mm, IPC Low Density)
3D model SOIC300-20 (20-Pin Plastic Wide Body Small Outline Integrated Circuit 1.27 mm Pitch)
pins: 1 RA0/AN0 (io), 2 RA1/AN1/LVDIN (io), 3 RA4/T0CKI (io), 4 RA5/~{MCLR}/VPP (in), 5 VSS (power), 6 AVSS (power), 7 RA2/AN2/VREF-/VRL (io), 8 RA3/AN3/VREF+/VRH (io), 9 RB0/AN4/INT (io), 10 RB1/AN5/~{SS} (io), 11 RB4/SDI/SDA (io), 12 RB5/SDO/P1B (io), 13 RB6/T1OSO/T1CKI/P1C (io), 14 RB7/T1OSI/P1D (io), 15 AVDD (power), 16 VDD (power), 17 RA6/OSC2/CLKOUT (io), 18 RA7/OSC1/CLKIN (io), 19 RB2/SCK/SCL (io), 20 RB3/CCP1/P1A (io)

## PIC16LC771T-I/SS
designator U?
8-Bit CMOS Microcontroller with 12-Bit A/D, 4K (x14-Bit words) EPROM, 256 Bytes RAM, 20-Pin SSOP, 2.5 to 5.5V Supply Range, Industrial Temperature, Tape and Reel; Published: 11-Oct-2004; LatestRevisionDate: 04-Mar-2005; LatestRevisionNote: Stylized 3D Model Added.; DatasheetVersion: DS41120B_2002; PackageVersion: 2003; PackageReference: SSOP-20; Publisher: Altium Limited; PackageDescription: SSOP, Plastic; 20 Leads; Body Width 5.3 mm; Pitch 0.65 mm; Code_JEDEC: MO-150; ComponentLink1Description: Manufacturer Link; ComponentLink1URL: http://www.microchip.com; ComponentLink2Description: Datasheet; ComponentLink2URL: http://ww1.microchip.com/downloads/en/DeviceDoc/41120b.pdf; ComponentLink3Description: Packaging Specification; ComponentLink3URL: http://ww1.microchip.com/downloads/en/PackagingSpec/00049AD.pdf
footprint SSOP-20 (SSOP, Plastic; 20 Leads; Body Width 5.3 mm; Pitch 0.65 mm)
3D model SSOP-20 (SSOP, Plastic; 20 Leads; Body Width 5.3 mm; Pitch 0.65 mm)
pins: 1 RA0/AN0 (io), 2 RA1/AN1/LVDIN (io), 3 RA4/T0CKI (io), 4 RA5/~{MCLR}/VPP (in), 5 VSS (power), 6 AVSS (power), 7 RA2/AN2/VREF-/VRL (io), 8 RA3/AN3/VREF+/VRH (io), 9 RB0/AN4/INT (io), 10 RB1/AN5/~{SS} (io), 11 RB4/SDI/SDA (io), 12 RB5/SDO/P1B (io), 13 RB6/T1OSO/T1CKI/P1C (io), 14 RB7/T1OSI/P1D (io), 15 AVDD (power), 16 VDD (power), 17 RA6/OSC2/CLKOUT (io), 18 RA7/OSC1/CLKIN (io), 19 RB2/SCK/SCL (io), 20 RB3/CCP1/P1A (io)

## PIC16LC771T/SO
designator U?
8-Bit CMOS Microcontroller with 12-Bit A/D, 4K (x14-Bit words) EPROM, 256 Bytes RAM, 20-Pin SOIC, 2.5 to 5.5V Supply Range, Commercial Temperature, Tape and Reel; Published: 11-Oct-2004; LatestRevisionDate: 13-Apr-2006; LatestRevisionNote: IPC-7351 Footprint Added.; DatasheetVersion: DS41120B_2002; PackageVersion: 2003; PackageReference: SOIC300-20; Publisher: Altium Limited; PackageDescription: 20-Pin Plastic Wide Body Small Outline Integrated Circuit 1.27 mm Pitch; Code_JEDEC: MS-013-AC; Code_IPC: SOIC127P1030-20; ComponentLink1Description: Manufacturer Link; ComponentLink1URL: http://www.microchip.com; ComponentLink2Description: Datasheet; ComponentLink2URL: http://ww1.microchip.com/downloads/en/DeviceDoc/41120b.pdf; ComponentLink3Description: Packaging Specification; ComponentLink3URL: http://ww1.microchip.com/downloads/en/PackagingSpec/00049AD.pdf
footprint SOIC300-20_N (SOIC, 20-Leads, Body 12.8x7.5mm, Pitch 1.27mm, IPC Medium Density)
footprint SOIC300-20_L (SOIC, 20-Leads, Body 12.8x7.5mm, Pitch 1.27mm, IPC High Density)
footprint SOIC300-20_M (SOIC, 20-Leads, Body 12.8x7.5mm, Pitch 1.27mm, IPC Low Density)
3D model SOIC300-20 (20-Pin Plastic Wide Body Small Outline Integrated Circuit 1.27 mm Pitch)
pins: 1 RA0/AN0 (io), 2 RA1/AN1/LVDIN (io), 3 RA4/T0CKI (io), 4 RA5/~{MCLR}/VPP (in), 5 VSS (power), 6 AVSS (power), 7 RA2/AN2/VREF-/VRL (io), 8 RA3/AN3/VREF+/VRH (io), 9 RB0/AN4/INT (io), 10 RB1/AN5/~{SS} (io), 11 RB4/SDI/SDA (io), 12 RB5/SDO/P1B (io), 13 RB6/T1OSO/T1CKI/P1C (io), 14 RB7/T1OSI/P1D (io), 15 AVDD (power), 16 VDD (power), 17 RA6/OSC2/CLKOUT (io), 18 RA7/OSC1/CLKIN (io), 19 RB2/SCK/SCL (io), 20 RB3/CCP1/P1A (io)

## PIC16LC771T/SS
designator U?
8-Bit CMOS Microcontroller with 12-Bit A/D, 4K (x14-Bit words) EPROM, 256 Bytes RAM, 20-Pin SSOP, 2.5 to 5.5V Supply Range, Commercial Temperature, Tape and Reel; Published: 11-Oct-2004; LatestRevisionDate: 04-Mar-2005; LatestRevisionNote: Stylized 3D Model Added.; DatasheetVersion: DS41120B_2002; PackageVersion: 2003; PackageReference: SSOP-20; Publisher: Altium Limited; PackageDescription: SSOP, Plastic; 20 Leads; Body Width 5.3 mm; Pitch 0.65 mm; Code_JEDEC: MO-150; ComponentLink1Description: Manufacturer Link; ComponentLink1URL: http://www.microchip.com; ComponentLink2Description: Datasheet; ComponentLink2URL: http://ww1.microchip.com/downloads/en/DeviceDoc/41120b.pdf; ComponentLink3Description: Packaging Specification; ComponentLink3URL: http://ww1.microchip.com/downloads/en/PackagingSpec/00049AD.pdf
footprint SSOP-20 (SSOP, Plastic; 20 Leads; Body Width 5.3 mm; Pitch 0.65 mm)
3D model SSOP-20 (SSOP, Plastic; 20 Leads; Body Width 5.3 mm; Pitch 0.65 mm)
pins: 1 RA0/AN0 (io), 2 RA1/AN1/LVDIN (io), 3 RA4/T0CKI (io), 4 RA5/~{MCLR}/VPP (in), 5 VSS (power), 6 AVSS (power), 7 RA2/AN2/VREF-/VRL (io), 8 RA3/AN3/VREF+/VRH (io), 9 RB0/AN4/INT (io), 10 RB1/AN5/~{SS} (io), 11 RB4/SDI/SDA (io), 12 RB5/SDO/P1B (io), 13 RB6/T1OSO/T1CKI/P1C (io), 14 RB7/T1OSI/P1D (io), 15 AVDD (power), 16 VDD (power), 17 RA6/OSC2/CLKOUT (io), 18 RA7/OSC1/CLKIN (io), 19 RB2/SCK/SCL (io), 20 RB3/CCP1/P1A (io)

## PIC16LC773-20/SO
designator U?
8-Bit CMOS Microcontroller with 12-Bit A/D, 4K x 14 words EPROM, 256 x 8 Bytes RAM, 28-Pin SOIC, 2.5 to 5.5V Supply Range, Commercial Temperature; Note: 25mA source/sink per I/O.; Published: 11-Oct-2004; LatestRevisionDate: 13-Apr-2006; LatestRevisionNote: IPC-7351 Footprint Added.; DatasheetVersion: DS30275A_1999; PackageVersion: 2005; PackageReference: SOIC300-28; Publisher: Altium Limited; PackageDescription: 28-Pin Small Outline Integrated Circuit 1.27 mm Pitch; Code_JEDEC: MS-013; ComponentLink1Description: Manufacturer Link; ComponentLink1URL: http://www.microchip.com; ComponentLink2Description: Datasheet; ComponentLink2URL: http://ww1.microchip.com/downloads/en/DeviceDoc/30275a.pdf; ComponentLink3Description: Packaging Specification; ComponentLink3URL: http://ww1.microchip.com/downloads/en/PackagingSpec/00049AD.pdf
footprint SOIC300-28_N (SOIC, 28-Leads, Body 17.9x7.5mm, Pitch 1.27mm, IPC Medium Density)
footprint SOIC300-28_L (SOIC, 28-Leads, Body 17.9x7.5mm, Pitch 1.27mm, IPC High Density)
footprint SOIC300-28_M (SOIC, 28-Leads, Body 17.9x7.5mm, Pitch 1.27mm, IPC Low Density)
3D model SOIC300-28 (28-Pin Small Outline Integrated Circuit 1.27 mm Pitch)
pins: 1 ~{MCLR}/VPP (in), 2 RA0/AN0 (io), 3 RA1/AN1 (io), 4 RA2/AN2/VREF-/VRL (io), 5 RA3/AN3/VREF+/VRH (io), 6 RA4/T0CKI (io), 7 AVDD (power), 8 AVSS (power), 9 OSC1/CLKIN (in), 10 OSC2/CLKOUT (out), 11 RC0/T1OSO/T1CKI (io), 12 RC1/T1OSI/CCP2 (io), 13 RC2/CCP1 (io), 14 RC3/SCK/SCL (io), 15 RC4/SDI/SDA (io), 16 RC5/SDO (io), 17 RC6/TX/CK (io), 18 RC7/RX/DT (io), 19 VSS (power), 20 VDD (power), 21 RB0/INT (io), 22 RB1/~{SS} (io), 23 RB2/AN8 (io), 24 RB3/AN9/LVDIN (io), 25 RB4 (io), 26 RB5 (io), 27 RB6 (io), 28 RB7 (io)

## PIC16LC773-20/SP
designator U?
8-Bit CMOS Microcontroller with 12-Bit A/D, 4K x 14 words EPROM, 256 x 8 Bytes RAM, 28-Pin Skinny plastic DIP, 2.5 to 5.5V Supply Range, Commercial Temperature; Note: 25mA source/sink per I/O.; Published: 11-Oct-2004; LatestRevisionDate: 04-Mar-2005; LatestRevisionNote: Stylized 3D Model Added.; DatasheetVersion: DS30275A_1999; PackageVersion: 2003; PackageReference: PDIP300-28; Publisher: Altium Limited; PackageDescription: DIP, Plastic, Skinny; 28 Leads; Row Spacing 7.62 mm; Pitch 2.54 mm; Code_JEDEC: MO-095; ComponentLink1Description: Manufacturer Link; ComponentLink1URL: http://www.microchip.com; ComponentLink2Description: Datasheet; ComponentLink2URL: http://ww1.microchip.com/downloads/en/DeviceDoc/30275a.pdf; ComponentLink3Description: Packaging Specification; ComponentLink3URL: http://ww1.microchip.com/downloads/en/PackagingSpec/00049AD.pdf
footprint PDIP300-28 (DIP, Plastic, Skinny; 28 Leads; Row Spacing 7.62 mm; Pitch 2.54 mm)
3D model PDIP300-28 (DIP, Plastic, Skinny; 28 Leads; Row Spacing 7.62 mm; Pitch 2.54 mm)
pins: 1 ~{MCLR}/VPP (in), 2 RA0/AN0 (io), 3 RA1/AN1 (io), 4 RA2/AN2/VREF-/VRL (io), 5 RA3/AN3/VREF+/VRH (io), 6 RA4/T0CKI (io), 7 AVDD (power), 8 AVSS (power), 9 OSC1/CLKIN (in), 10 OSC2/CLKOUT (out), 11 RC0/T1OSO/T1CKI (io), 12 RC1/T1OSI/CCP2 (io), 13 RC2/CCP1 (io), 14 RC3/SCK/SCL (io), 15 RC4/SDI/SDA (io), 16 RC5/SDO (io), 17 RC6/TX/CK (io), 18 RC7/RX/DT (io), 19 VSS (power), 20 VDD (power), 21 RB0/INT (io), 22 RB1/~{SS} (io), 23 RB2/AN8 (io), 24 RB3/AN9/LVDIN (io), 25 RB4 (io), 26 RB5 (io), 27 RB6 (io), 28 RB7 (io)

## PIC16LC773-20/SS
designator U?
8-Bit CMOS Microcontroller with 12-Bit A/D, 4K x 14 words EPROM, 256 x 8 Bytes RAM, 28-Pin SSOP, 2.5 to 5.5V Supply Range, Commercial Temperature; Note: 25mA source/sink per I/O.; Published: 11-Oct-2004; LatestRevisionDate: 04-Mar-2005; LatestRevisionNote: Stylized 3D Model Added.; DatasheetVersion: DS30275A_1999; PackageVersion: 2005; PackageReference: SSOP-28; Publisher: Altium Limited; PackageDescription: SSOP, Plastic; 28 Leads; Body Width 5.2 mm; Pitch 0.65 mm; Code_JEDEC: MS-150; ComponentLink1Description: Manufacturer Link; ComponentLink1URL: http://www.microchip.com; ComponentLink2Description: Datasheet; ComponentLink2URL: http://ww1.microchip.com/downloads/en/DeviceDoc/30275a.pdf; ComponentLink3Description: Packaging Specification; ComponentLink3URL: http://ww1.microchip.com/downloads/en/PackagingSpec/00049AD.pdf
footprint SSOP-28 (SSOP, Plastic; 28 Leads; Body Width 5.2 mm; Pitch 0.65 mm)
3D model SSOP-28 (SSOP, Plastic; 28 Leads; Body Width 5.2 mm; Pitch 0.65 mm)
pins: 1 ~{MCLR}/VPP (in), 2 RA0/AN0 (io), 3 RA1/AN1 (io), 4 RA2/AN2/VREF-/VRL (io), 5 RA3/AN3/VREF+/VRH (io), 6 RA4/T0CKI (io), 7 AVDD (power), 8 AVSS (power), 9 OSC1/CLKIN (in), 10 OSC2/CLKOUT (out), 11 RC0/T1OSO/T1CKI (io), 12 RC1/T1OSI/CCP2 (io), 13 RC2/CCP1 (io), 14 RC3/SCK/SCL (io), 15 RC4/SDI/SDA (io), 16 RC5/SDO (io), 17 RC6/TX/CK (io), 18 RC7/RX/DT (io), 19 VSS (power), 20 VDD (power), 21 RB0/INT (io), 22 RB1/~{SS} (io), 23 RB2/AN8 (io), 24 RB3/AN9/LVDIN (io), 25 RB4 (io), 26 RB5 (io), 27 RB6 (io), 28 RB7 (io)

## PIC16LC773-20I/SO
designator U?
8-Bit CMOS Microcontroller with 12-Bit A/D, 4K x 14 words EPROM, 256 x 8 Bytes RAM, 28-Pin SOIC, 2.5 to 5.5V Supply Range, Industrial Temperature; Note: 25mA source/sink per I/O.; Published: 11-Oct-2004; LatestRevisionDate: 13-Apr-2006; LatestRevisionNote: IPC-7351 Footprint Added.; DatasheetVersion: DS30275A_1999; PackageVersion: 2005; PackageReference: SOIC300-28; Publisher: Altium Limited; PackageDescription: 28-Pin Small Outline Integrated Circuit 1.27 mm Pitch; Code_JEDEC: MS-013; ComponentLink1Description: Manufacturer Link; ComponentLink1URL: http://www.microchip.com; ComponentLink2Description: Datasheet; ComponentLink2URL: http://ww1.microchip.com/downloads/en/DeviceDoc/30275a.pdf; ComponentLink3Description: Packaging Specification; ComponentLink3URL: http://ww1.microchip.com/downloads/en/PackagingSpec/00049AD.pdf
footprint SOIC300-28_N (SOIC, 28-Leads, Body 17.9x7.5mm, Pitch 1.27mm, IPC Medium Density)
footprint SOIC300-28_L (SOIC, 28-Leads, Body 17.9x7.5mm, Pitch 1.27mm, IPC High Density)
footprint SOIC300-28_M (SOIC, 28-Leads, Body 17.9x7.5mm, Pitch 1.27mm, IPC Low Density)
3D model SOIC300-28 (28-Pin Small Outline Integrated Circuit 1.27 mm Pitch)
pins: 1 ~{MCLR}/VPP (in), 2 RA0/AN0 (io), 3 RA1/AN1 (io), 4 RA2/AN2/VREF-/VRL (io), 5 RA3/AN3/VREF+/VRH (io), 6 RA4/T0CKI (io), 7 AVDD (power), 8 AVSS (power), 9 OSC1/CLKIN (in), 10 OSC2/CLKOUT (out), 11 RC0/T1OSO/T1CKI (io), 12 RC1/T1OSI/CCP2 (io), 13 RC2/CCP1 (io), 14 RC3/SCK/SCL (io), 15 RC4/SDI/SDA (io), 16 RC5/SDO (io), 17 RC6/TX/CK (io), 18 RC7/RX/DT (io), 19 VSS (power), 20 VDD (power), 21 RB0/INT (io), 22 RB1/~{SS} (io), 23 RB2/AN8 (io), 24 RB3/AN9/LVDIN (io), 25 RB4 (io), 26 RB5 (io), 27 RB6 (io), 28 RB7 (io)

## PIC16LC773-20I/SP
designator U?
8-Bit CMOS Microcontroller with 12-Bit A/D, 4K x 14 words EPROM, 256 x 8 Bytes RAM, 28-Pin Skinny plastic DIP, 2.5 to 5.5V Supply Range, Industrial Temperature; Note: 25mA source/sink per I/O.; Published: 11-Oct-2004; LatestRevisionDate: 04-Mar-2005; LatestRevisionNote: Stylized 3D Model Added.; DatasheetVersion: DS30275A_1999; PackageVersion: 2003; PackageReference: PDIP300-28; Publisher: Altium Limited; PackageDescription: DIP, Plastic, Skinny; 28 Leads; Row Spacing 7.62 mm; Pitch 2.54 mm; Code_JEDEC: MO-095; ComponentLink1Description: Manufacturer Link; ComponentLink1URL: http://www.microchip.com; ComponentLink2Description: Datasheet; ComponentLink2URL: http://ww1.microchip.com/downloads/en/DeviceDoc/30275a.pdf; ComponentLink3Description: Packaging Specification; ComponentLink3URL: http://ww1.microchip.com/downloads/en/PackagingSpec/00049AD.pdf
footprint PDIP300-28 (DIP, Plastic, Skinny; 28 Leads; Row Spacing 7.62 mm; Pitch 2.54 mm)
3D model PDIP300-28 (DIP, Plastic, Skinny; 28 Leads; Row Spacing 7.62 mm; Pitch 2.54 mm)
pins: 1 ~{MCLR}/VPP (in), 2 RA0/AN0 (io), 3 RA1/AN1 (io), 4 RA2/AN2/VREF-/VRL (io), 5 RA3/AN3/VREF+/VRH (io), 6 RA4/T0CKI (io), 7 AVDD (power), 8 AVSS (power), 9 OSC1/CLKIN (in), 10 OSC2/CLKOUT (out), 11 RC0/T1OSO/T1CKI (io), 12 RC1/T1OSI/CCP2 (io), 13 RC2/CCP1 (io), 14 RC3/SCK/SCL (io), 15 RC4/SDI/SDA (io), 16 RC5/SDO (io), 17 RC6/TX/CK (io), 18 RC7/RX/DT (io), 19 VSS (power), 20 VDD (power), 21 RB0/INT (io), 22 RB1/~{SS} (io), 23 RB2/AN8 (io), 24 RB3/AN9/LVDIN (io), 25 RB4 (io), 26 RB5 (io), 27 RB6 (io), 28 RB7 (io)

## PIC16LC773-20I/SS
designator U?
8-Bit CMOS Microcontroller with 12-Bit A/D, 4K x 14 words EPROM, 256 x 8 Bytes RAM, 28-Pin SSOP, 2.5 to 5.5V Supply Range, Industrial Temperature; Note: 25mA source/sink per I/O.; Published: 11-Oct-2004; LatestRevisionDate: 04-Mar-2005; LatestRevisionNote: Stylized 3D Model Added.; DatasheetVersion: DS30275A_1999; PackageVersion: 2005; PackageReference: SSOP-28; Publisher: Altium Limited; PackageDescription: SSOP, Plastic; 28 Leads; Body Width 5.2 mm; Pitch 0.65 mm; Code_JEDEC: MS-150; ComponentLink1Description: Manufacturer Link; ComponentLink1URL: http://www.microchip.com; ComponentLink2Description: Datasheet; ComponentLink2URL: http://ww1.microchip.com/downloads/en/DeviceDoc/30275a.pdf; ComponentLink3Description: Packaging Specification; ComponentLink3URL: http://ww1.microchip.com/downloads/en/PackagingSpec/00049AD.pdf
footprint SSOP-28 (SSOP, Plastic; 28 Leads; Body Width 5.2 mm; Pitch 0.65 mm)
3D model SSOP-28 (SSOP, Plastic; 28 Leads; Body Width 5.2 mm; Pitch 0.65 mm)
pins: 1 ~{MCLR}/VPP (in), 2 RA0/AN0 (io), 3 RA1/AN1 (io), 4 RA2/AN2/VREF-/VRL (io), 5 RA3/AN3/VREF+/VRH (io), 6 RA4/T0CKI (io), 7 AVDD (power), 8 AVSS (power), 9 OSC1/CLKIN (in), 10 OSC2/CLKOUT (out), 11 RC0/T1OSO/T1CKI (io), 12 RC1/T1OSI/CCP2 (io), 13 RC2/CCP1 (io), 14 RC3/SCK/SCL (io), 15 RC4/SDI/SDA (io), 16 RC5/SDO (io), 17 RC6/TX/CK (io), 18 RC7/RX/DT (io), 19 VSS (power), 20 VDD (power), 21 RB0/INT (io), 22 RB1/~{SS} (io), 23 RB2/AN8 (io), 24 RB3/AN9/LVDIN (io), 25 RB4 (io), 26 RB5 (io), 27 RB6 (io), 28 RB7 (io)

## PIC16LC773T-20/SO
designator U?
8-Bit CMOS Microcontroller with 12-Bit A/D, 4K x 14 words EPROM, 256 x 8 Bytes RAM, 28-Pin SOIC, 2.5 to 5.5V Supply Range, Commercial Temperature, Tape and Reel; Note: 25mA source/sink per I/O.; Published: 11-Oct-2004; LatestRevisionDate: 13-Apr-2006; LatestRevisionNote: IPC-7351 Footprint Added.; DatasheetVersion: DS30275A_1999; PackageVersion: 2005; PackageReference: SOIC300-28; Publisher: Altium Limited; PackageDescription: 28-Pin Small Outline Integrated Circuit 1.27 mm Pitch; Code_JEDEC: MS-013; ComponentLink1Description: Manufacturer Link; ComponentLink1URL: http://www.microchip.com; ComponentLink2Description: Datasheet; ComponentLink2URL: http://ww1.microchip.com/downloads/en/DeviceDoc/30275a.pdf; ComponentLink3Description: Packaging Specification; ComponentLink3URL: http://ww1.microchip.com/downloads/en/PackagingSpec/00049AD.pdf
footprint SOIC300-28_N (SOIC, 28-Leads, Body 17.9x7.5mm, Pitch 1.27mm, IPC Medium Density)
footprint SOIC300-28_L (SOIC, 28-Leads, Body 17.9x7.5mm, Pitch 1.27mm, IPC High Density)
footprint SOIC300-28_M (SOIC, 28-Leads, Body 17.9x7.5mm, Pitch 1.27mm, IPC Low Density)
3D model SOIC300-28 (28-Pin Small Outline Integrated Circuit 1.27 mm Pitch)
pins: 1 ~{MCLR}/VPP (in), 2 RA0/AN0 (io), 3 RA1/AN1 (io), 4 RA2/AN2/VREF-/VRL (io), 5 RA3/AN3/VREF+/VRH (io), 6 RA4/T0CKI (io), 7 AVDD (power), 8 AVSS (power), 9 OSC1/CLKIN (in), 10 OSC2/CLKOUT (out), 11 RC0/T1OSO/T1CKI (io), 12 RC1/T1OSI/CCP2 (io), 13 RC2/CCP1 (io), 14 RC3/SCK/SCL (io), 15 RC4/SDI/SDA (io), 16 RC5/SDO (io), 17 RC6/TX/CK (io), 18 RC7/RX/DT (io), 19 VSS (power), 20 VDD (power), 21 RB0/INT (io), 22 RB1/~{SS} (io), 23 RB2/AN8 (io), 24 RB3/AN9/LVDIN (io), 25 RB4 (io), 26 RB5 (io), 27 RB6 (io), 28 RB7 (io)